# EAGLE library part LT3509 (library ic-LT)
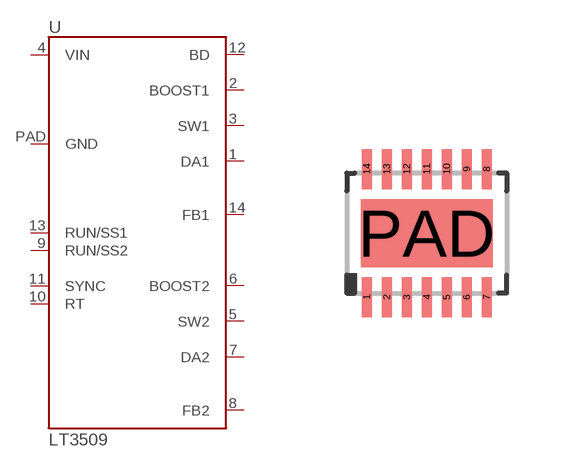
[diagram p4: symbol with the pads of DFN14; footprint DFN14]

Designator prefix U

## LT3509DE  [DFN14]
1  DA1
2  BOOST1
3  SW1
4  VIN
5  SW2
6  BOOST2
7  DA2
8  FB2
9  RUN/SS2
10  RT
11  SYNC
12  BD
13  RUN/SS1
14  FB1
PAD  GND

## Footprint DFN14 (pad centres in mm)
smd 0.25 x 1: 1 -1.5,-1.6; 2 -1,-1.6; 3 -0.5,-1.6; 4 0,-1.6; 5 0.5,-1.6; 6 1,-1.6; 7 1.5,-1.6; 8 1.5,1.6; 9 1,1.6; 10 0.5,1.6; 11 0,1.6; 12 -0.5,1.6; 13 -1,1.6; 14 -1.5,1.6
smd 3.3 x 1.7: PAD 0,0